# EAGLE library part SPIOLED_STANDOFF (library SPIOLED-STANDOFF)
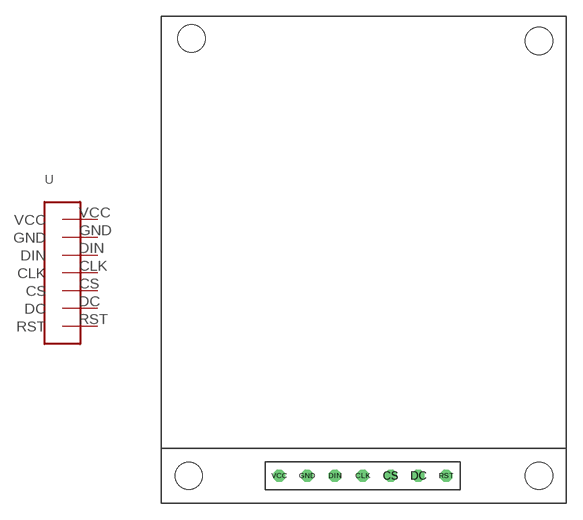
[diagram p0: symbol with the pads of SPIOLED_STADOFF; footprint SPIOLED_STADOFF]

Designator prefix U

## SPIOLED_STANDOFF  [SPIOLED_STADOFF]
CLK  CLK
CS  CS
DC  DC
DIN  DIN
GND  GND
RST  RST
VCC  VCC

## Footprint SPIOLED_STADOFF (pad centres in mm)
drill 0.6 octagon: CLK 18.39,2.5; CS 20.93,2.5; DC 23.47,2.5; DIN 15.85,2.5; GND 13.31,2.5; RST 26.01,2.5; VCC 10.77,2.5
hole 2.5 at 2.5,2.5
hole 2.5 at 34.5,2.5
hole 2.5 at 34.5,42.25
hole 2.5 at 2.75,42.5